# Altium schematic symbol library CON-9.SchLib: 1 symbol
Pins are listed as number, name and electrical type; pins without a type are passive.

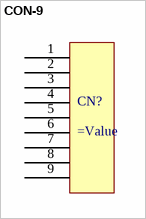
[diagram p0: symbol CON-9]

## CON-9
designator CN?
=Description
pins: 1, 2, 3, 4, 5, 6, 7, 8, 9